# EAGLE library part 10236-55G3PC (library 3M_By_element14_Batch_1)
Mini Ribbon Connector
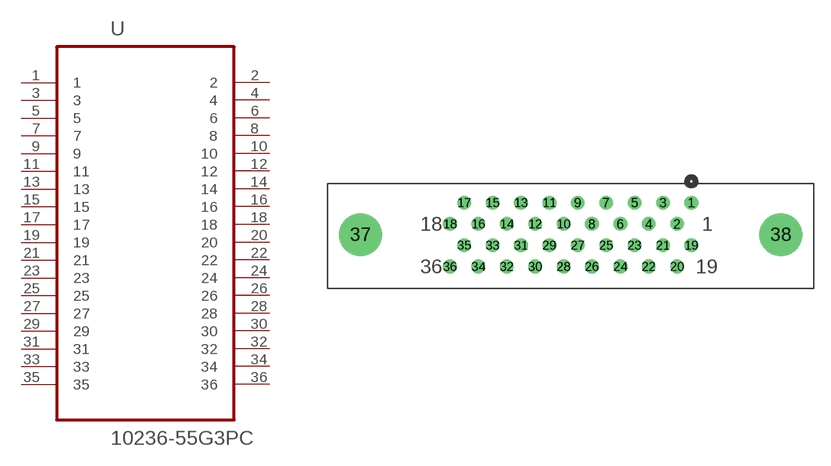
[diagram p5: symbol with the pads of 3M_10236-55G3PC; footprint 3M_10236-55G3PC]

Designator prefix U

## 10236-55G3PC (MPN: 10236-55G3PC; OC_FARNELL: 1258973; OC_NEWARK: 93K6333; PACKAGE: Mini Ribbon Connectors; SUPPLIER: 3M)  [3M_10236-55G3PC]
1  1  pas
2  2  pas
3  3  pas
4  4  pas
5  5  pas
6  6  pas
7  7  pas
8  8  pas
9  9  pas
10  10  pas
11  11  pas
12  12  pas
13  13  pas
14  14  pas
15  15  pas
16  16  pas
17  17  pas
18  18  pas
19  19  pas
20  20  pas
21  21  pas
22  22  pas
23  23  pas
24  24  pas
25  25  pas
26  26  pas
27  27  pas
28  28  pas
29  29  pas
30  30  pas
31  31  pas
32  32  pas
33  33  pas
34  34  pas
35  35  pas
36  36  pas

## Footprint 3M_10236-55G3PC (pad centres in mm)
drill 0.711: 1 21.59,5.715; 2 20.32,3.81; 3 19.05,5.715; 4 17.78,3.81; 5 16.51,5.715; 6 15.24,3.81; 7 13.97,5.715; 8 12.7,3.81; 9 11.43,5.715; 10 10.16,3.81; 11 8.89,5.715; 12 7.62,3.81; 13 6.35,5.715; 14 5.08,3.81; 15 3.81,5.715; 16 2.54,3.81; 17 1.27,5.715; 18 0,3.81; 19 21.59,1.905; 20 20.32,0; 21 19.05,1.905; 22 17.78,0; 23 16.51,1.905; 24 15.24,0; 25 13.97,1.905; 26 12.7,0; 27 11.43,1.905; 28 10.16,0; 29 8.89,1.905; 30 7.62,0; 31 6.35,1.905; 32 5.08,0; 33 3.81,1.905; 34 2.54,0; 35 1.27,1.905; 36 0,0
drill 2.794: 37 -8.001,2.845; 38 29.591,2.845